# Altium integrated library TI Audio Sound Generator.IntLib: 4 symbols
Pins are listed as number, name and electrical type; pins without a type are passive.

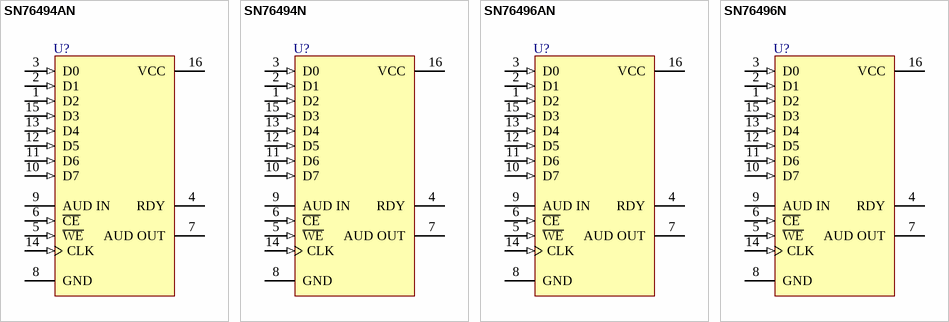
[diagram p0: symbols SN76494AN to SN76496N]

## SN76494AN
designator U?
Programmable Tone/Noise Generator; Published: 15-Apr-2002; LatestRevisionDate: 08-Jul-2005; LatestRevisionNote: Stylized 3D Model Added.; DatasheetVersion: Jan-1989; PackageVersion: Oct-1995; PackageReference: N016; Publisher: Altium Limited; PackageDescription: DIP; 16 Leads; Row Spacing 7.62 mm; Pitch 2.54 mm; Code_JEDEC: MS-001-BB; ComponentLink1Description: Manufacturer Link; ComponentLink1URL: http://www.ti.com/
footprint N016 (DIP; 16 Leads; Row Spacing 7.62 mm; Pitch 2.54 mm)
3D model N016 (DIP; 16 Leads; Row Spacing 7.62 mm; Pitch 2.54 mm)
pins: 1 D2 (in), 2 D1 (in), 3 D0 (in), 4 RDY (oc), 5 ~{WE} (in), 6 ~{CE} (in), 7 AUD OUT (oc), 8 GND (power), 9 AUD IN, 10 D7 (in), 11 D6 (in), 12 D5 (in), 13 D4 (in), 14 CLK (in), 15 D3 (in), 16 VCC (power)

## SN76494N
designator U?
Programmable Tone/Noise Generator; Published: 15-Apr-2002; LatestRevisionDate: 08-Jul-2005; LatestRevisionNote: Stylized 3D Model Added.; DatasheetVersion: Jan-1989; PackageVersion: Oct-1995; PackageReference: N016; Publisher: Altium Limited; PackageDescription: DIP; 16 Leads; Row Spacing 7.62 mm; Pitch 2.54 mm; Code_JEDEC: MS-001-BB; ComponentLink1Description: Manufacturer Link; ComponentLink1URL: http://www.ti.com/
footprint N016 (DIP; 16 Leads; Row Spacing 7.62 mm; Pitch 2.54 mm)
3D model N016 (DIP; 16 Leads; Row Spacing 7.62 mm; Pitch 2.54 mm)
pins: 1 D2 (in), 2 D1 (in), 3 D0 (in), 4 RDY (oc), 5 ~{WE} (in), 6 ~{CE} (in), 7 AUD OUT (oc), 8 GND (power), 9 AUD IN, 10 D7 (in), 11 D6 (in), 12 D5 (in), 13 D4 (in), 14 CLK (in), 15 D3 (in), 16 VCC (power)

## SN76496AN
designator U?
Programmable Tone/Noise Generator; Published: 15-Apr-2002; LatestRevisionDate: 08-Jul-2005; LatestRevisionNote: Stylized 3D Model Added.; DatasheetVersion: Jan-1989; PackageVersion: Oct-1995; PackageReference: N016; Publisher: Altium Limited; PackageDescription: DIP; 16 Leads; Row Spacing 7.62 mm; Pitch 2.54 mm; Code_JEDEC: MS-001-BB; ComponentLink1Description: Manufacturer Link; ComponentLink1URL: http://www.ti.com/
footprint N016 (DIP; 16 Leads; Row Spacing 7.62 mm; Pitch 2.54 mm)
3D model N016 (DIP; 16 Leads; Row Spacing 7.62 mm; Pitch 2.54 mm)
pins: 1 D2 (in), 2 D1 (in), 3 D0 (in), 4 RDY (oc), 5 ~{WE} (in), 6 ~{CE} (in), 7 AUD OUT (oc), 8 GND (power), 9 AUD IN, 10 D7 (in), 11 D6 (in), 12 D5 (in), 13 D4 (in), 14 CLK (in), 15 D3 (in), 16 VCC (power)

## SN76496N
designator U?
Programmable Tone/Noise Generator; Published: 15-Apr-2002; LatestRevisionDate: 08-Jul-2005; LatestRevisionNote: Stylized 3D Model Added.; DatasheetVersion: Jan-1989; PackageVersion: Oct-1995; PackageReference: N016; Publisher: Altium Limited; PackageDescription: DIP; 16 Leads; Row Spacing 7.62 mm; Pitch 2.54 mm; Code_JEDEC: MS-001-BB; ComponentLink1Description: Manufacturer Link; ComponentLink1URL: http://www.ti.com/
footprint N016 (DIP; 16 Leads; Row Spacing 7.62 mm; Pitch 2.54 mm)
3D model N016 (DIP; 16 Leads; Row Spacing 7.62 mm; Pitch 2.54 mm)
pins: 1 D2 (in), 2 D1 (in), 3 D0 (in), 4 RDY (oc), 5 ~{WE} (in), 6 ~{CE} (in), 7 AUD OUT (oc), 8 GND (power), 9 AUD IN, 10 D7 (in), 11 D6 (in), 12 D5 (in), 13 D4 (in), 14 CLK (in), 15 D3 (in), 16 VCC (power)